# Altium footprint library PC817X2NIP0F.PcbLib: 2 footprints
Each footprint in its own frame and in the unit in brackets; x right, y up, seen from the top. Pads: shape width x height; smd on the part's side, far side on the other; paste and mask are expansions set on the pad; w line width, h text height; cw(c..) or ccw(c..) is an arc to the next point about the centre after c.
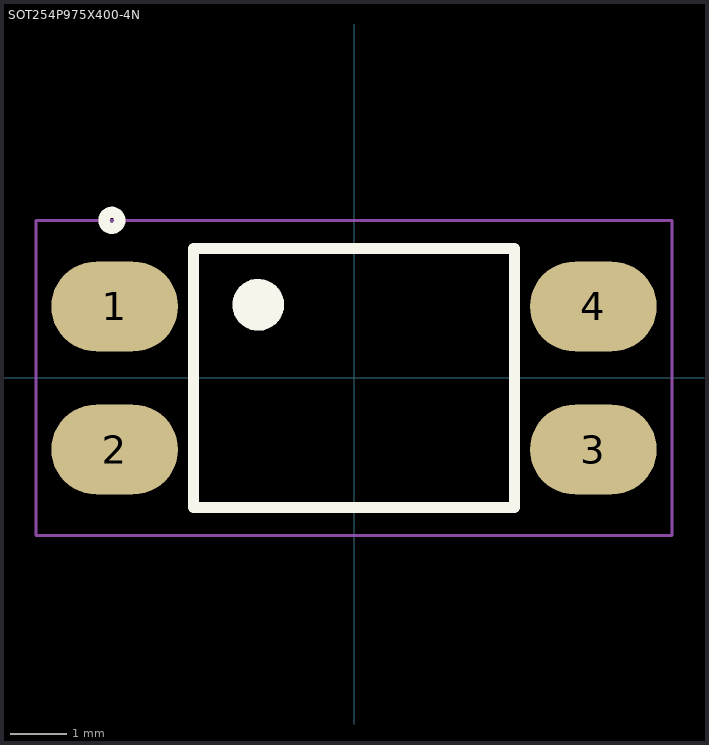
[diagram p0: the footprints below, top view; thin cyan lines are the x and y axes]

## PCBComponent_1 [mm]

## SOT254P975X400-4N [mm]
pads (4):
  oval 2.25x1.6 smd: 1(-4.25,1.27) 2(-4.25,-1.27) 3(4.25,-1.27) 4(4.25,1.27)
Top Overlay:
  circle w0.2: c-1.7,1.3 r0.361
  circle w0.2: c-4.3,2.8 r0.141
  region: -2.004,1.6 -1.4,1.6 -1.4,1.002 -2.004,1.002
  lines w0.2: -2.85,-2.3 2.85,-2.3 2.85,2.3 -2.85,2.3 -2.85,-2.3
Mechanical 4:
  lines w0.052: -5.65,-2.8 5.65,-2.8 5.65,2.8 -5.65,2.8 -5.65,-2.8
3D body "PC817.STEP": height 3.83, standoff -0.02, extent -5,-2.29 5,2.29
3D body: height 1.6, standoff 0, extent -0.508,6.096 -0.508,6.096